# Altium schematic symbol library SCH - POWER - SWITCHMODE - TI TPS61379-Q1RTE.SchLib: 1 symbol
Pins are listed as number, name and electrical type; pins without a type are passive.

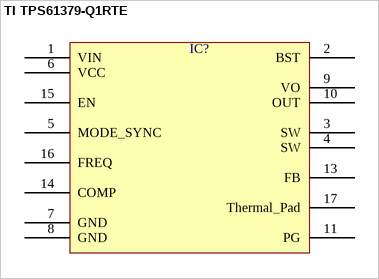
[diagram p0: symbol TI TPS61379-Q1RTE]

## TI TPS61379-Q1RTE
designator IC?  (value not drawn)
pins: 1 VIN, 2 BST, 3 SW, 4 SW, 5 MODE_SYNC, 6 VCC, 7 GND, 8 GND, 9 VO, 10 OUT, 11 PG, 13 FB, 14 COMP, 15 EN, 16 FREQ, 17 Thermal_Pad